# EAGLE library part 621X4021021 (library Board-to-Board (rev18a))
WR-PHD 1.27mm Dual SMT Pin Header H=3.80 mm, 40 Pins=>Code : Con_BTB_PHD_1.27_2_621x4021021(Packaging:x = 0: Tube x = 3: Tape & Reel with Cap) <http://katalog.we-online.de/media/thumbs2/eican/thb_Con_BTB_PHD_1.27_2_6210xx21021_pf2.jpg> 6210xx21021 Details see: http://katalog.we-online.de/en/em/621_0xx_210_21 6213xx21021 Details see: http://katalog.we-online.de/en/em/PHD_1_27_SMT_DUAL_PIN_HEADER_REEL_6213XX21021 2014 (C) Würth Elektronik
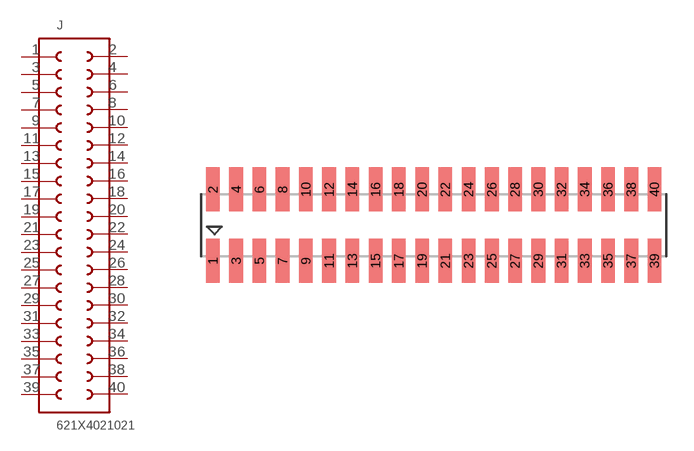
[diagram p283: symbol with the pads of 621X4021021; footprint 621X4021021]

Designator prefix J

## 621X4021021  [621X4021021]
1  1  pas
2  40  pas
3  2  pas
4  39  pas
5  3  pas
6  38  pas
7  4  pas
8  37  pas
9  5  pas
10  36  pas
11  6  pas
12  35  pas
13  7  pas
14  34  pas
15  8  pas
16  33  pas
17  9  pas
18  32  pas
19  10  pas
20  31  pas
21  11  pas
22  30  pas
23  12  pas
24  29  pas
25  13  pas
26  28  pas
27  14  pas
28  27  pas
29  15  pas
30  26  pas
31  16  pas
32  25  pas
33  17  pas
34  24  pas
35  18  pas
36  23  pas
37  19  pas
38  22  pas
39  20  pas
40  21  pas

## Footprint 621X4021021 (pad centres in mm)
WR-PHD 1.27mm Dual SMT Pin Header H=3.80 mm, 40 Pins
smd 0.75 x 2.4: 1 -12.065,-1.95; 2 -12.065,1.95; 3 -10.795,-1.95; 4 -10.795,1.95; 5 -9.525,-1.95; 6 -9.525,1.95; 7 -8.255,-1.95; 8 -8.255,1.95; 9 -6.985,-1.95; 10 -6.985,1.95; 11 -5.715,-1.95; 12 -5.715,1.95; 13 -4.445,-1.95; 14 -4.445,1.95; 15 -3.175,-1.95; 16 -3.175,1.95; 17 -1.905,-1.95; 18 -1.905,1.95; 19 -0.635,-1.95; 20 -0.635,1.95; 21 0.635,-1.95; 22 0.635,1.95; 23 1.905,-1.95; 24 1.905,1.95; 25 3.175,-1.95; 26 3.175,1.95; 27 4.445,-1.95; 28 4.445,1.95; 29 5.715,-1.95; 30 5.715,1.95; 31 6.985,-1.95; 32 6.985,1.95; 33 8.255,-1.95; 34 8.255,1.95; 35 9.525,-1.95; 36 9.525,1.95; 37 10.795,-1.95; 38 10.795,1.95; 39 12.065,-1.95; 40 12.065,1.95